# Altium footprint library OSCSC12P20X12X5_5-4.PcbLib: 1 footprints
Each footprint in its own frame and in the unit in brackets; x right, y up, seen from the top. Pads: shape width x height; smd on the part's side, far side on the other; paste and mask are expansions set on the pad; w line width, h text height; cw(c..) or ccw(c..) is an arc to the next point about the centre after c.
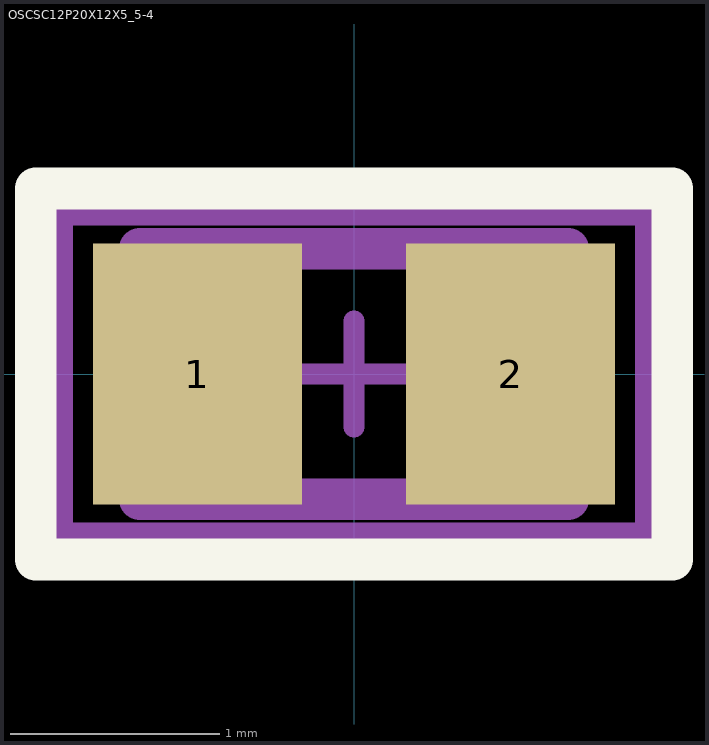
[diagram p0: the footprint, top view; thin cyan lines are the x and y axes]

## OSCSC12P20X12X5_5-4 [mm]
pads (2):
  rect 1x1.25 smd: 1(-0.75,0) 2(0.75,0)
Top Overlay:
  lines w0.2: -1.524,-0.889 1.524,-0.889 1.524,0.889 -1.524,0.889 -1.524,-0.889
Mechanical 1:
  lines w0.1: -1.397,-0.762 -1.397,0.762 1.397,0.762 1.397,-0.762 -1.397,-0.762
  text ".Designator" at 0,-0.014 h0.6
Mechanical 13:
  lines w0.2: -1.025,-0.6 -1.025,0.6 1.025,0.6 1.025,-0.6 -1.025,-0.6
Mechanical 15:
  lines w0.1: -0.254,0 0.254,0 ; 0,-0.254 0,0.254 ; -1.524,-0.889 -1.524,0.889 1.524,0.889 1.524,-0.889 -1.524,-0.889
3D body "NX2012SA-32.768K-STD-MUB-1.stp": height 0.55, standoff 0, extent -1.025,-0.6 1.025,0.6